# EAGLE library part 50246-010 (library con-aces-50246-series)
ACES CONNECTORS 50246 SERIES ACES Connecors 50246 <https://www.acesconn.com/tw/series/50246-xxxxx-xxx/1292>
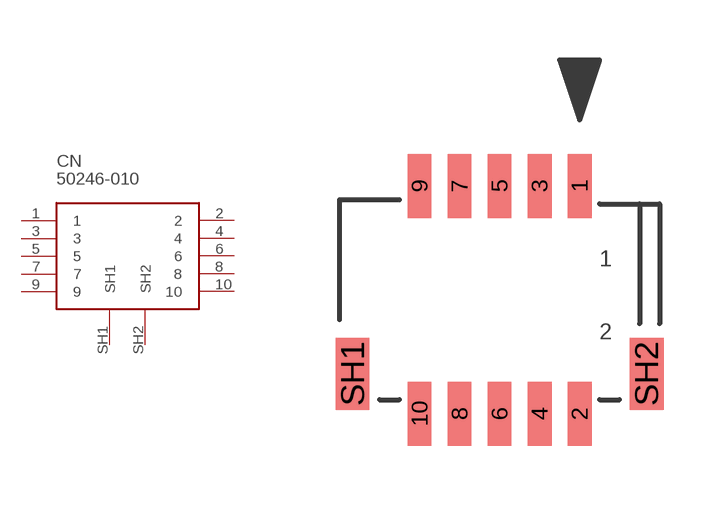
[diagram p1: symbol with the pads of 50246-010; footprint 50246-010]

Designator prefix CN

## 50246-010  [50246-010]
1  1
2  2
3  3
4  4
5  5
6  6
7  7
8  8
9  9
10  10
SH1  SH1
SH2  SH2

## Footprint 50246-010 (pad centres in mm)
smd 0.6 x 1.6: 1 2,2.85; 2 2,-2.85; 3 1,2.85; 4 1,-2.85; 5 0,2.85; 6 0,-2.85; 7 -1,2.85; 8 -1,-2.85; 9 -2,2.85; 10 -2,-2.85
smd 0.85 x 1.8: SH1 -3.675,-1.85; SH2 3.675,-1.85